# Altium footprint library V2.6.0_ChipSat.PcbLib: 60 footprints (part 2 of 4)
Each footprint in its own frame and in the unit in brackets; x right, y up, seen from the top. Pads: shape width x height; smd on the part's side, far side on the other; paste and mask are expansions set on the pad; w line width, h text height; cw(c..) or ccw(c..) is an arc to the next point about the centre after c.
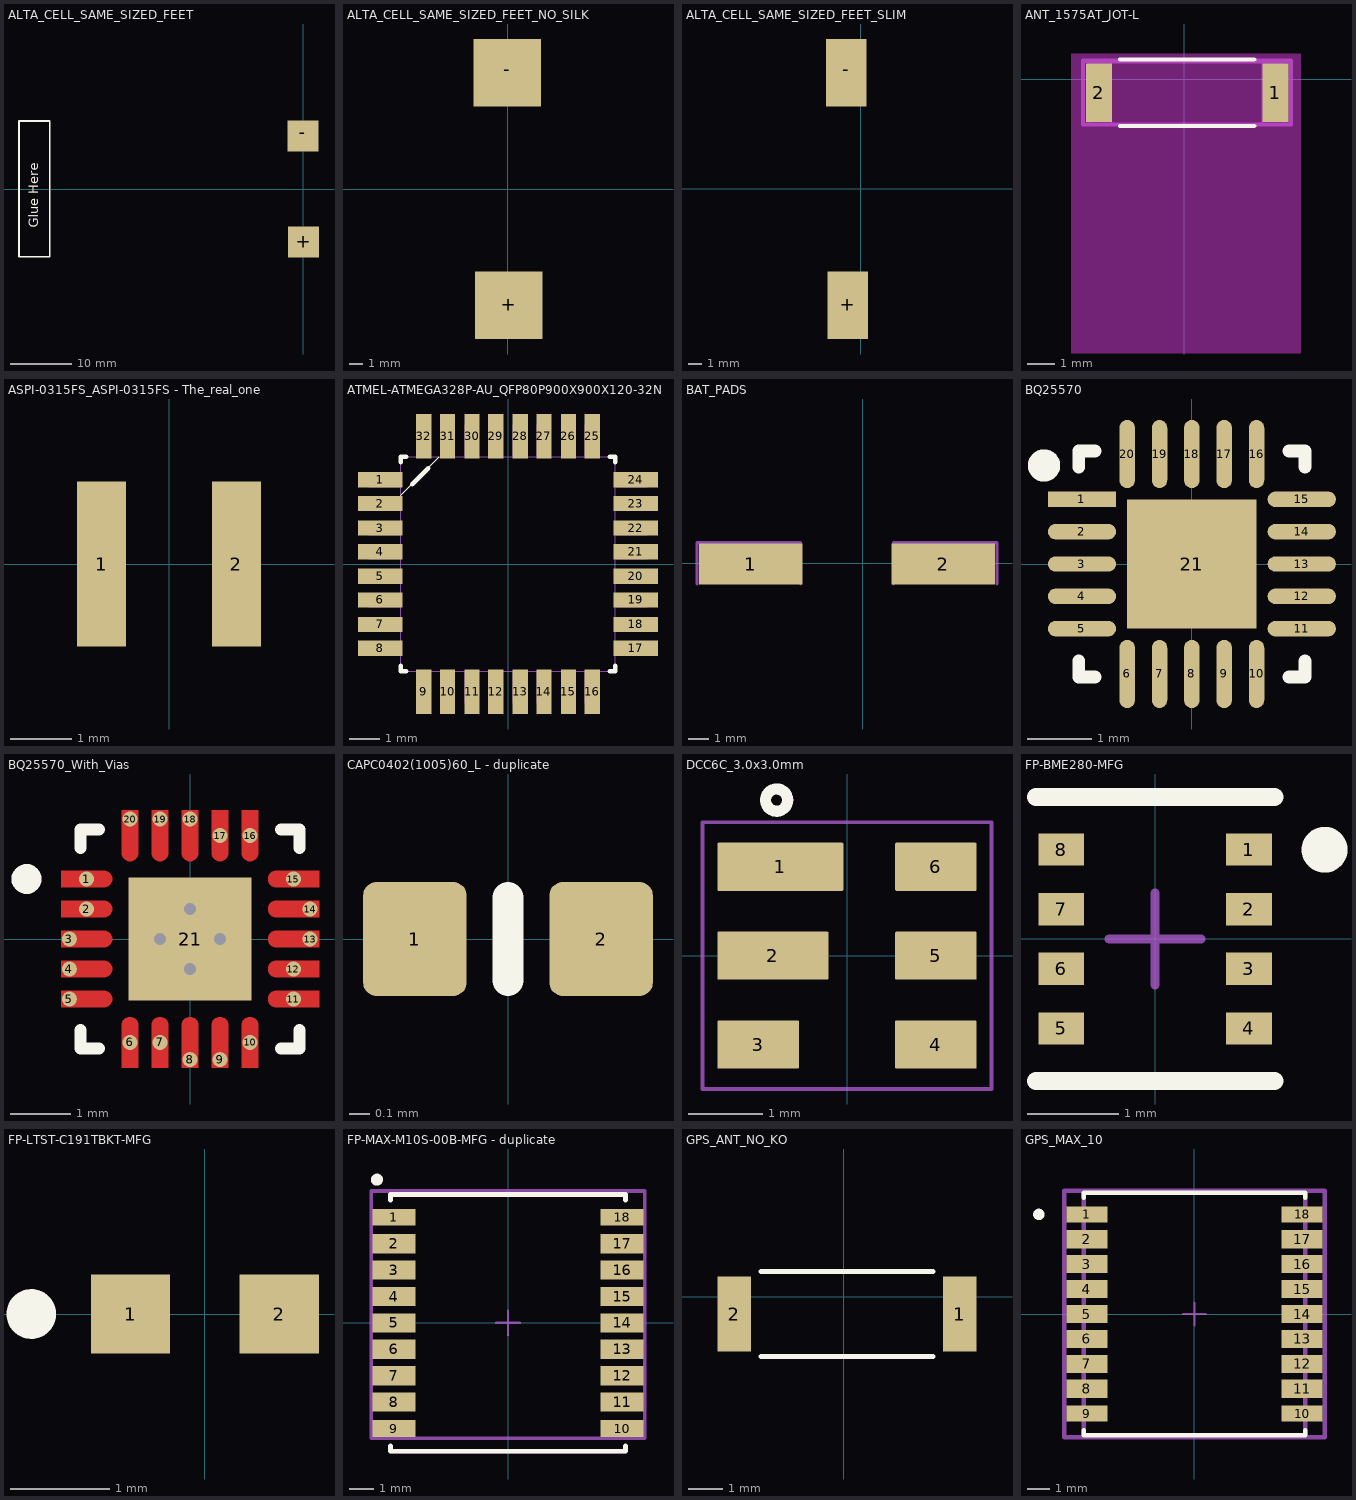
[diagram p1: the footprints below, top view; thin cyan lines are the x and y axes]

## ALTA_CELL_SAME_SIZED_FEET [mm] "SAME SIZED FEET AND CORRECT POLARITY"
pads (2):
  rect 5x5 smd: +(0.056,-8.603) -(-0.055,8.603)
Top Overlay:
  lines w0.254: -46.122,-10.966 -41.122,-10.966 -41.122,11.034 -46.122,11.034 -46.122,-10.966
  text "Glue Here" at -42.986,-6.324 h1.52

## ALTA_CELL_SAME_SIZED_FEET_NO_SILK [mm] "SAME SIZED FEET AND CORRECT POLARITY AND SILK CUT"
pads (2):
  rect 5x5 smd: +(0.056,-8.603) -(-0.055,8.603)

## ALTA_CELL_SAME_SIZED_FEET_SLIM [mm] "SAME SIZED FEET AND CORRECT POLARITY AND SILK CUT"
pads (2):
  rect 3x5 smd: +(-0.944,-8.603) -(-1.055,8.603)

## ANT_1575AT_JOT-L [mm]
height 1.25
pads (2):
  rect 0.963x2.16 smd paste+0 mask+0: 1(3.363,-0.5) 2(-3.163,-0.5)
Top Overlay:
  lines w0.152: -2.385,-1.732 2.585,-1.732 ; -2.385,0.732 2.585,0.732
Keep-Out Layer:
  region: 4.318,-10.149 4.318,0.949 -4.2,0.949 -4.2,-10.149
Mechanical 13:
  circle w0: c3.236,-0.5 r0.076
  lines w0.025: -3.494,-1.605 -3.494,0.605 ; -3.494,-1.605 -2.681,-1.605 -2.681,0.605 -3.494,0.605 ; -3.494,-1.605 -3.494,0.605 ; -3.494,0.605 3.694,0.605 ; 3.694,-1.605 2.881,-1.605 2.881,0.605 3.694,0.605 ; 3.694,-1.605 3.694,0.605 ; 3.694,-1.605 3.694,0.605
Mechanical 15:
  lines w0.152: -3.746,-1.681 3.946,-1.681 3.946,0.681 -3.746,0.681 -3.746,-1.681

## ASPI-0315FS_ASPI-0315FS - The_real_one [mil]
pads (2):
  rect 31.5x106.3 smd: 1(-43.31,0) 2(43.31,0)
3D body "Inductor_L6920_ASPI-0315FS.STEP": height 29.53, standoff -29.53, extent -59.06,-59.06 59.06,59.06

## ATMEL-ATMEGA328P-AU_QFP80P900X900X120-32N [mil]
height 49.21
pads (32):
  rect 58x20 smd: 1(-167,110) 2(-167,79) 3(-167,47) 4(-167,16) 5(-167,-16) 6(-167,-47) 7(-167,-79) 8(-167,-110) 17(167,-110) 18(167,-79) 19(167,-47) 20(167,-16) 21(167,16) 22(167,47) 23(167,79) 24(167,110)
  rect 20x58 smd: 9(-110,-167) 10(-79,-167) 11(-47,-167) 12(-16,-167) 13(16,-167) 14(47,-167) 15(79,-167) 16(110,-167) 25(110,167) 26(79,167) 27(47,167) 28(16,167) 29(-16,167) 30(-47,167) 31(-79,167) 32(-110,167)
Top Overlay:
  lines w0: -140,90 -90,140
  lines w6: -140,-133 -140,-140 -133,-140 ; -140,133 -140,140 -133,140 ; -125,104 -104,125 ; 133,-140 140,-140 140,-133 ; 133,140 140,140 140,133
Top Courtyard:
  lines w0: -182,-119 -140,-119 -140,-101 -182,-101 -182,-119 ; -182,-88 -140,-88 -140,-70 -182,-70 -182,-88 ; -182,-56 -140,-56 -140,-38 -182,-38 -182,-56 ; -182,-25 -140,-25 -140,-7 -182,-7 -182,-25 ; -182,7 -140,7 -140,25 -182,25 -182,7 ; -182,38 -140,38 -140,56 -182,56 -182,38 ; -182,70 -140,70 -140,88 -182,88 -182,70 ; -182,101 -140,101 -140,119 -182,119 -182,101 ; -140,-140 -140,140 140,140 140,-140 -140,-140 ; -119,-182 -101,-182 -101,-140 -119,-140 -119,-182 ; -119,140 -119,182 -101,182 -101,140 -119,140 ; -88,-182 -70,-182 -70,-140 -88,-140 -88,-182 ; -88,140 -88,182 -70,182 -70,140 -88,140 ; -56,-182 -38,-182 -38,-140 -56,-140 -56,-182 ; -56,140 -56,182 -38,182 -38,140 -56,140 ; -25,-182 -7,-182 -7,-140 -25,-140 -25,-182 ; -25,140 -25,182 -7,182 -7,140 -25,140 ; 7,-182 25,-182 25,-140 7,-140 7,-182 ; 7,140 7,182 25,182 25,140 7,140 ; 38,-182 56,-182 56,-140 38,-140 38,-182 ; 38,140 38,182 56,182 56,140 38,140 ; 70,-182 88,-182 88,-140 70,-140 70,-182 ; 70,140 70,182 88,182 88,140 70,140 ; 101,-182 119,-182 119,-140 101,-140 101,-182 ; 101,140 101,182 119,182 119,140 101,140 ; 140,-119 182,-119 182,-101 140,-101 140,-119 ; 140,-88 182,-88 182,-70 140,-70 140,-88 ; 140,-56 182,-56 182,-38 140,-38 140,-56 ; 140,-25 182,-25 182,-7 140,-7 140,-25 ; 140,7 182,7 182,25 140,25 140,7 ; 140,38 182,38 182,56 140,56 140,38 ; 140,70 182,70 182,88 140,88 140,70 ; 140,101 182,101 182,119 140,119 140,101

## BAT_PADS [mm]
pads (2):
  rect 5x2 smd: 1(-5.397,-0.025) 2(3.897,-0.025)
Top Courtyard:
  lines w0.152: -8,-1 -8,1 ; -3,-1 -3,1 ; 1.5,-1 1.5,1 ; 6.5,-1 6.5,1 ; -8,1 -3,1 ; -8,1 -3,1 ; 1.5,1 6.5,1 ; 1.5,1 6.5,1

## BQ25570 [mm] "BQ25570_CC"
pads (21):
  rect 1.057x0.239 smd paste+0 mask+0: 1(-1.701,1)
  rrect100% 1.057x0.239 smd paste+0 mask+0: 2(-1.701,0.5) 3(-1.701,0) 4(-1.701,-0.5) 5(-1.701,-1) 11(1.701,-1) 12(1.701,-0.5) 13(1.701,0) 14(1.701,0.5) 15(1.701,1)
  rrect100% 0.239x1.057 smd paste+0 mask+0: 6(-1,-1.701) 7(-0.5,-1.701) 8(0,-1.701) 9(0.5,-1.701) 10(1,-1.701) 16(1,1.701) 17(0.5,1.701) 18(0,1.701) 19(-0.5,1.701) 20(-1,1.701)
  rect 2x2 smd paste-1000 mask+0: 21(0,0)
Top Overlay:
  circle w0.25: c-2.286,1.524 r0.125
  lines w0.2: -1.75,-1.5 -1.75,-1.75 -1.5,-1.75 ; -1.75,1.5 -1.75,1.75 -1.5,1.75 ; 1.5,-1.75 1.75,-1.75 1.75,-1.5 ; 1.5,1.75 1.75,1.75 1.75,1.5
Top Paste:
  rectangle: -0.632,-0.632 0.632,0.632
Top Component Center:
  lines w0.1: -0.5,0 0.5,0 ; 0,-0.5 0,0.5
3D body "IC_Texas_Instruments_BQ25570RGRR_eec.STEP": height 0.25, standoff 0, extent -2.729,-2.729 2.729,2.729

## BQ25570_With_Vias [mm] "BQ25570_CC"
pads (21):
  round 0.252 smd paste-1000 mask+0: 1(-1.725,1) 2(-1.725,0.5) 3(-2.01,0) 4(-2.01,-0.5) 5(-2.01,-1) 6(-1,-1.725) 7(-0.5,-1.725) 8(0,-2.01) 9(0.5,-2.01) 10(1,-1.725) 11(1.725,-1) 12(1.725,-0.5) 13(2,0) 14(2,0.5) 15(1.725,1) 16(1,1.725) 17(0.5,1.725) 18(0,2) 19(-0.5,2) 20(-1,2)
  rect 2.05x2.05 smd paste-1000 mask+0: 21(0,0)
via -0.5,0 diameter 0.5 hole 0.2
via 0.5,0 diameter 0.5 hole 0.2
via 0,0.5 diameter 0.5 hole 0.2
via 0,-0.5 diameter 0.5 hole 0.2
Top Layer:
  region: -2.15,1.14 -1.44,1.14 -1.412,1.14 -1.361,1.119 -1.321,1.079 -1.3,1.028 -1.3,1 -1.3,0.972 -1.321,0.921 -1.361,0.881 -1.412,0.86 -1.44,0.86 -2.15,0.86
  region: -2.15,0.64 -1.44,0.64 -1.412,0.64 -1.361,0.619 -1.321,0.579 -1.3,0.528 -1.3,0.5 -1.3,0.472 -1.321,0.421 -1.361,0.381 -1.412,0.36 -1.44,0.36 -2.15,0.36
  region: -2.15,0.14 -1.44,0.14 -1.412,0.14 -1.361,0.119 -1.321,0.079 -1.3,0.028 -1.3,0 -1.3,-0.028 -1.321,-0.079 -1.361,-0.119 -1.412,-0.14 -1.44,-0.14 -2.15,-0.14
  region: -2.15,-0.36 -1.44,-0.36 -1.412,-0.36 -1.361,-0.381 -1.321,-0.421 -1.3,-0.472 -1.3,-0.5 -1.3,-0.528 -1.321,-0.579 -1.361,-0.619 -1.412,-0.64 -1.44,-0.64 -2.15,-0.64
  region: -2.15,-0.86 -1.44,-0.86 -1.412,-0.86 -1.361,-0.881 -1.321,-0.921 -1.3,-0.972 -1.3,-1 -1.3,-1.028 -1.321,-1.079 -1.361,-1.119 -1.412,-1.14 -1.44,-1.14 -2.15,-1.14
  region: -1.14,-2.15 -1.14,-1.44 -1.14,-1.412 -1.119,-1.361 -1.079,-1.321 -1.028,-1.3 -1,-1.3 -0.972,-1.3 -0.921,-1.321 -0.881,-1.361 -0.86,-1.412 -0.86,-1.44 -0.86,-2.15
  region: -0.64,-2.15 -0.64,-1.44 -0.64,-1.412 -0.619,-1.361 -0.579,-1.321 -0.528,-1.3 -0.5,-1.3 -0.472,-1.3 -0.421,-1.321 -0.381,-1.361 -0.36,-1.412 -0.36,-1.44 -0.36,-2.15
  region: -0.14,-2.15 -0.14,-1.44 -0.14,-1.412 -0.119,-1.361 -0.079,-1.321 -0.028,-1.3 0,-1.3 0.028,-1.3 0.079,-1.321 0.119,-1.361 0.14,-1.412 0.14,-1.44 0.14,-2.15
  region: 0.36,-2.15 0.36,-1.44 0.36,-1.412 0.381,-1.361 0.421,-1.321 0.472,-1.3 0.5,-1.3 0.528,-1.3 0.579,-1.321 0.619,-1.361 0.64,-1.412 0.64,-1.44 0.64,-2.15
  region: 0.86,-2.15 0.86,-1.44 0.86,-1.412 0.881,-1.361 0.921,-1.321 0.972,-1.3 1,-1.3 1.028,-1.3 1.079,-1.321 1.119,-1.361 1.14,-1.412 1.14,-1.44 1.14,-2.15
  region: 2.15,-1.14 1.44,-1.14 1.412,-1.14 1.361,-1.119 1.321,-1.079 1.3,-1.028 1.3,-1 1.3,-0.972 1.321,-0.921 1.361,-0.881 1.412,-0.86 1.44,-0.86 2.15,-0.86
  region: 2.15,-0.64 1.44,-0.64 1.412,-0.64 1.361,-0.619 1.321,-0.579 1.3,-0.528 1.3,-0.5 1.3,-0.472 1.321,-0.421 1.361,-0.381 1.412,-0.36 1.44,-0.36 2.15,-0.36
  region: 2.15,-0.14 1.44,-0.14 1.412,-0.14 1.361,-0.119 1.321,-0.079 1.3,-0.028 1.3,0 1.3,0.028 1.321,0.079 1.361,0.119 1.412,0.14 1.44,0.14 2.15,0.14
  region: 2.15,0.36 1.44,0.36 1.412,0.36 1.361,0.381 1.321,0.421 1.3,0.472 1.3,0.5 1.3,0.528 1.321,0.579 1.361,0.619 1.412,0.64 1.44,0.64 2.15,0.64
  region: 2.15,0.86 1.44,0.86 1.412,0.86 1.361,0.881 1.321,0.921 1.3,0.972 1.3,1 1.3,1.028 1.321,1.079 1.361,1.119 1.412,1.14 1.44,1.14 2.15,1.14
  region: 1.14,2.15 1.14,1.44 1.14,1.412 1.119,1.361 1.079,1.321 1.028,1.3 1,1.3 0.972,1.3 0.921,1.321 0.881,1.361 0.86,1.412 0.86,1.44 0.86,2.15
  region: 0.64,2.15 0.64,1.44 0.64,1.412 0.619,1.361 0.579,1.321 0.528,1.3 0.5,1.3 0.472,1.3 0.421,1.321 0.381,1.361 0.36,1.412 0.36,1.44 0.36,2.15
  region: 0.14,2.15 0.14,1.44 0.14,1.412 0.119,1.361 0.079,1.321 0.028,1.3 0,1.3 -0.028,1.3 -0.079,1.321 -0.119,1.361 -0.14,1.412 -0.14,1.44 -0.14,2.15
  region: -0.36,2.15 -0.36,1.44 -0.36,1.412 -0.381,1.361 -0.421,1.321 -0.472,1.3 -0.5,1.3 -0.528,1.3 -0.579,1.321 -0.619,1.361 -0.64,1.412 -0.64,1.44 -0.64,2.15
  region: -0.86,2.15 -0.86,1.44 -0.86,1.412 -0.881,1.361 -0.921,1.321 -0.972,1.3 -1,1.3 -1.028,1.3 -1.079,1.321 -1.119,1.361 -1.14,1.412 -1.14,1.44 -1.14,2.15
Top Overlay:
  circle w0.25: c-2.725,1 r0.125
  lines w0.2: -1.825,-1.515 -1.825,-1.825 -1.515,-1.825 ; -1.825,1.515 -1.825,1.825 -1.515,1.825 ; 1.515,-1.825 1.825,-1.825 1.825,-1.515 ; 1.515,1.825 1.825,1.825 1.825,1.515
Top Paste:
  drawing of 24 lines, arcs and shapes, not listed
Top Component Center:
  lines w0.1: -0.5,0 0.5,0 ; 0,-0.5 0,0.5
3D body "IC_Texas_Instruments_BQ25570RGRR_eec.STEP": height 0.25, standoff 0, extent -2.25,-2.25 2.25,2.25

## CAPC0402(1005)60_L - duplicate [mm] "Chip Capacitor, Body 1.0x0.5mm, Height 0.6mm, IPC High Density"
height 0.6
pads (2):
  rrect25% 0.5x0.55 smd: 1(-0.45,0) 2(0.45,0)
Top Overlay:
  lines w0.15: 0,-0.2 0,0.2

## DCC6C_3.0x3.0mm [mm] "DCC6C footprint, 3.0x3.0mm"
height 1.1
pads (6):
  rrect5% 1.7x0.65 smd mask+0.05: 1(-0.9,1.2)
  rrect5% 1.5x0.65 smd mask+0.05: 2(-1,0)
  rrect5% 1.1x0.65 smd mask+0.05: 3(-1.2,-1.2) 4(1.2,-1.2) 5(1.2,0) 6(1.2,1.2)
Top Overlay:
  circle w0.15: c-0.95,2.1 r0.15
Mechanical 15:
  lines w0.05: -1.95,-1.8 1.95,-1.8 1.95,1.8 -1.95,1.8 -1.95,-1.8
3D body: height 1, standoff 0, extent -1.5,-1.5 1.5,1.5

## FP-BME280-MFG [mm]
pads (8):
  rect 0.5x0.35 smd paste+0 mask+0: 1(1.025,0.975) 2(1.025,0.325) 3(1.025,-0.325) 4(1.025,-0.975) 5(-1.025,-0.975) 6(-1.025,-0.325) 7(-1.025,0.325) 8(-1.025,0.975)
Top Overlay:
  circle w0.25: c1.85,0.975 r0.125
  lines w0.2: -1.3,-1.55 1.3,-1.55 ; -1.3,1.55 1.3,1.55
Top Component Center:
  lines w0.1: -0.5,0 0.5,0 ; 0,-0.5 0,0.5
3D body "BME280.STEP": height 1, standoff 0, extent -1.25,-1.25 1.25,1.25

## FP-LTST-C191TBKT-MFG [mm]
pads (2):
  rect 0.8x0.8 smd paste+0 mask+0: 1(-0.75,0) 2(0.75,0)
Top Overlay:
  circle w0.25: c-1.75,0 r0.125

## FP-MAX-M10S-00B-MFG - duplicate [mm]
pads (18):
  rect 1.8x0.7 smd paste-1000 mask+0: 1(-4.75,4.4) 9(-4.75,-4.4) 10(4.75,-4.4) 18(4.75,4.4)
  rect 1.8x0.8 smd paste-1000 mask+0: 2(-4.75,3.3) 3(-4.75,2.2) 4(-4.75,1.1) 5(-4.75,0) 6(-4.75,-1.1) 7(-4.75,-2.2) 8(-4.75,-3.3) 11(4.75,-3.3) 12(4.75,-2.2) 13(4.75,-1.1) 14(4.75,0) 15(4.75,1.1) 16(4.75,2.2) 17(4.75,3.3)
Top Overlay:
  circle w0.25: c-5.461,5.969 r0.125
  lines w0.2: -4.9,-5.125 -4.9,-5.35 4.9,-5.35 4.9,-5.125 ; -4.9,5.125 -4.9,5.35 4.9,5.35 4.9,5.125
Top Paste:
  region: 6.25,3.7 6.25,2.9 4.85,2.9 4.85,3 3.95,3 3.95,3.6 4.85,3.6 4.85,3.7
  region: 6.25,2.6 6.25,1.8 4.85,1.8 4.85,1.9 3.95,1.9 3.95,2.5 4.85,2.5 4.85,2.6
  region: 6.25,1.5 6.25,0.7 4.85,0.7 4.85,0.8 3.95,0.8 3.95,1.4 4.85,1.4 4.85,1.5
  region: 6.25,0.4 6.25,-0.4 4.85,-0.4 4.85,-0.3 3.95,-0.3 3.95,0.3 4.85,0.3 4.85,0.4
  region: 6.25,-0.7 6.25,-1.5 4.85,-1.5 4.85,-1.4 3.95,-1.4 3.95,-0.8 4.85,-0.8 4.85,-0.7
  region: 6.25,-1.8 6.25,-2.6 4.85,-2.6 4.85,-2.5 3.95,-2.5 3.95,-1.9 4.85,-1.9 4.85,-1.8
  region: 6.25,-2.9 6.25,-3.7 4.85,-3.7 4.85,-3.6 3.95,-3.6 3.95,-3 4.85,-3 4.85,-2.9
  region: -6.25,-3.7 -6.25,-2.9 -4.85,-2.9 -4.85,-3 -3.95,-3 -3.95,-3.6 -4.85,-3.6 -4.85,-3.7
  region: -6.25,-2.6 -6.25,-1.8 -4.85,-1.8 -4.85,-1.9 -3.95,-1.9 -3.95,-2.5 -4.85,-2.5 -4.85,-2.6
  region: -6.25,-1.5 -6.25,-0.7 -4.85,-0.7 -4.85,-0.8 -3.95,-0.8 -3.95,-1.4 -4.85,-1.4 -4.85,-1.5
  region: -6.25,-0.4 -6.25,0.4 -4.85,0.4 -4.85,0.3 -3.95,0.3 -3.95,-0.3 -4.85,-0.3 -4.85,-0.4
  region: -6.25,0.7 -6.25,1.5 -4.85,1.5 -4.85,1.4 -3.95,1.4 -3.95,0.8 -4.85,0.8 -4.85,0.7
  region: -6.25,1.8 -6.25,2.6 -4.85,2.6 -4.85,2.5 -3.95,2.5 -3.95,1.9 -4.85,1.9 -4.85,1.8
  region: -6.25,2.9 -6.25,3.7 -4.85,3.7 -4.85,3.6 -3.95,3.6 -3.95,3 -4.85,3 -4.85,2.9
  region: 6.25,4.75 6.25,4.05 4.85,4.05 4.85,4.15 3.95,4.15 3.95,4.65 4.85,4.65 4.85,4.75
  region: 6.25,-4.05 6.25,-4.75 4.85,-4.75 4.85,-4.65 3.95,-4.65 3.95,-4.15 4.85,-4.15 4.85,-4.05
  region: -6.25,-4.75 -6.25,-4.05 -4.85,-4.05 -4.85,-4.15 -3.95,-4.15 -3.95,-4.65 -4.85,-4.65 -4.85,-4.75
  region: -6.25,4.05 -6.25,4.75 -4.85,4.75 -4.85,4.65 -3.95,4.65 -3.95,4.15 -4.85,4.15 -4.85,4.05
Top 3D Body:
  lines w0.2: -4.9,-5.35 4.9,-5.35 ; -4.9,5.35 4.9,5.35
Top Courtyard:
  lines w0.152: -5.7,-4.8 -5.7,5.5 5.7,5.5 5.7,-4.8 -5.7,-4.8
Top Component Center:
  lines w0.1: -0.5,0 0.5,0 ; 0,-0.5 0,0.5
3D body "MAX-M10S-00B.STEP": height 2.7, standoff 0, extent -4.85,-5.35 4.85,5.05

## GPS_ANT_NO_KO [mm]
height 1.25
pads (2):
  rect 0.963x2.16 smd paste+0 mask+0: 1(3.363,-0.5) 2(-3.163,-0.5)
Top Overlay:
  lines w0.152: -2.385,-1.732 2.585,-1.732 ; -2.385,0.732 2.585,0.732
Mechanical 13:
  circle w0: c3.236,-0.5 r0.076
3D body "GPS_Chip_Ant.step": height 0.89, standoff 0, extent -3.494,-1.605 3.694,0.605

## GPS_MAX_10 [mm]
pads (18):
  rect 1.8x0.7 smd paste-1000 mask+0: 1(-4.75,4.4) 9(-4.75,-4.4) 10(4.75,-4.4) 18(4.75,4.4)
  rect 1.8x0.8 smd paste-1000 mask+0: 2(-4.75,3.3) 3(-4.75,2.2) 4(-4.75,1.1) 5(-4.75,0) 6(-4.75,-1.1) 7(-4.75,-2.2) 8(-4.75,-3.3) 11(4.75,-3.3) 12(4.75,-2.2) 13(4.75,-1.1) 14(4.75,0) 15(4.75,1.1) 16(4.75,2.2) 17(4.75,3.3)
Top Overlay:
  circle w0.25: c-6.875,4.4 r0.125
  lines w0.2: -4.9,-5.125 -4.9,-5.35 4.9,-5.35 4.9,-5.125 ; -4.9,5.125 -4.9,5.35 4.9,5.35 4.9,5.125
Top Paste:
  region: 6.25,3.7 6.25,2.9 4.85,2.9 4.85,3 3.95,3 3.95,3.6 4.85,3.6 4.85,3.7
  region: 6.25,2.6 6.25,1.8 4.85,1.8 4.85,1.9 3.95,1.9 3.95,2.5 4.85,2.5 4.85,2.6
  region: 6.25,1.5 6.25,0.7 4.85,0.7 4.85,0.8 3.95,0.8 3.95,1.4 4.85,1.4 4.85,1.5
  region: 6.25,0.4 6.25,-0.4 4.85,-0.4 4.85,-0.3 3.95,-0.3 3.95,0.3 4.85,0.3 4.85,0.4
  region: 6.25,-0.7 6.25,-1.5 4.85,-1.5 4.85,-1.4 3.95,-1.4 3.95,-0.8 4.85,-0.8 4.85,-0.7
  region: 6.25,-1.8 6.25,-2.6 4.85,-2.6 4.85,-2.5 3.95,-2.5 3.95,-1.9 4.85,-1.9 4.85,-1.8
  region: 6.25,-2.9 6.25,-3.7 4.85,-3.7 4.85,-3.6 3.95,-3.6 3.95,-3 4.85,-3 4.85,-2.9
  region: -6.25,-3.7 -6.25,-2.9 -4.85,-2.9 -4.85,-3 -3.95,-3 -3.95,-3.6 -4.85,-3.6 -4.85,-3.7
  region: -6.25,-2.6 -6.25,-1.8 -4.85,-1.8 -4.85,-1.9 -3.95,-1.9 -3.95,-2.5 -4.85,-2.5 -4.85,-2.6
  region: -6.25,-1.5 -6.25,-0.7 -4.85,-0.7 -4.85,-0.8 -3.95,-0.8 -3.95,-1.4 -4.85,-1.4 -4.85,-1.5
  region: -6.25,-0.4 -6.25,0.4 -4.85,0.4 -4.85,0.3 -3.95,0.3 -3.95,-0.3 -4.85,-0.3 -4.85,-0.4
  region: -6.25,0.7 -6.25,1.5 -4.85,1.5 -4.85,1.4 -3.95,1.4 -3.95,0.8 -4.85,0.8 -4.85,0.7
  region: -6.25,1.8 -6.25,2.6 -4.85,2.6 -4.85,2.5 -3.95,2.5 -3.95,1.9 -4.85,1.9 -4.85,1.8
  region: -6.25,2.9 -6.25,3.7 -4.85,3.7 -4.85,3.6 -3.95,3.6 -3.95,3 -4.85,3 -4.85,2.9
  region: 6.25,4.75 6.25,4.05 4.85,4.05 4.85,4.15 3.95,4.15 3.95,4.65 4.85,4.65 4.85,4.75
  region: 6.25,-4.05 6.25,-4.75 4.85,-4.75 4.85,-4.65 3.95,-4.65 3.95,-4.15 4.85,-4.15 4.85,-4.05
  region: -6.25,-4.75 -6.25,-4.05 -4.85,-4.05 -4.85,-4.15 -3.95,-4.15 -3.95,-4.65 -4.85,-4.65 -4.85,-4.75
  region: -6.25,4.05 -6.25,4.75 -4.85,4.75 -4.85,4.65 -3.95,4.65 -3.95,4.15 -4.85,4.15 -4.85,4.05
Top 3D Body:
  lines w0.2: -4.9,-5.35 -4.9,5.35 4.9,5.35 4.9,-5.35 -4.9,-5.35
Top Courtyard:
  lines w0.2: -5.75,-5.45 -5.75,5.45 5.75,5.45 5.75,-5.45 -5.75,-5.45
Top Assembly:
  lines w0.2: -5.75,-5.45 -5.75,5.45 5.75,5.45 5.75,-5.45 -5.75,-5.45
  text ".Designator" at 0,0.188 h1
Top Component Center:
  lines w0.1: -0.5,0 0.5,0 ; 0,-0.5 0,0.5
3D body "UNK_u-blox_MAX-M10S-00B_eec.STEP": height 0.25, standoff 0, extent -5.75,-5.45 5.75,5.45